# EAGLE library part 418311170807 (library Wurth_Elektronik_Electromechanic_Switch_rev17b)
WS-PT 2.54 mm piano type compact SMD Dip Switch with flat actuator, 7 Pole
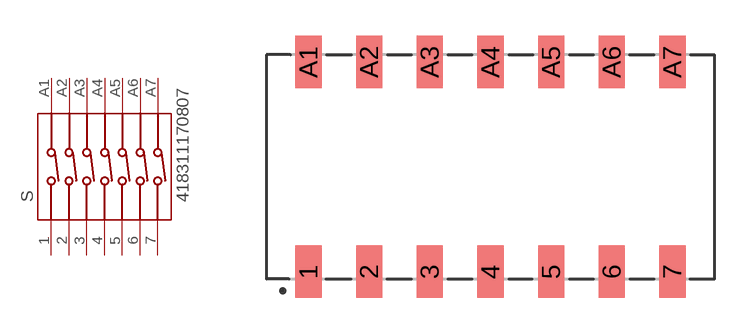
[diagram p78: symbol with the pads of 418311170807; footprint 418311170807]

Designator prefix S

## 418311170807  [418311170807]
1  1  pas
2  2  pas
3  3  pas
4  4  pas
5  5  pas
6  6  pas
7  7  pas
A1  A1  pas
A2  A2  pas
A3  A3  pas
A4  A4  pas
A5  A5  pas
A6  A6  pas
A7  A7  pas

## Footprint 418311170807 (pad centres in mm)
WS-PT 2.54 mm piano type compact SMD Dip Switch with flat actuator, 7 Pole
smd 1.1 x 2.2: 1 -7.62,-4.4; 2 -5.08,-4.4; 3 -2.54,-4.4; 4 0,-4.4; 5 2.54,-4.4; 6 5.08,-4.4; 7 7.62,-4.4; A1 -7.62,4.4; A2 -5.08,4.4; A3 -2.54,4.4; A4 0,4.4; A5 2.54,4.4; A6 5.08,4.4; A7 7.62,4.4